# Altium footprint library MiscPCB.PcbLib: 7 footprints
Each footprint in its own frame and in the unit in brackets; x right, y up, seen from the top. Pads: shape width x height; smd on the part's side, far side on the other; paste and mask are expansions set on the pad; w line width, h text height; cw(c..) or ccw(c..) is an arc to the next point about the centre after c.
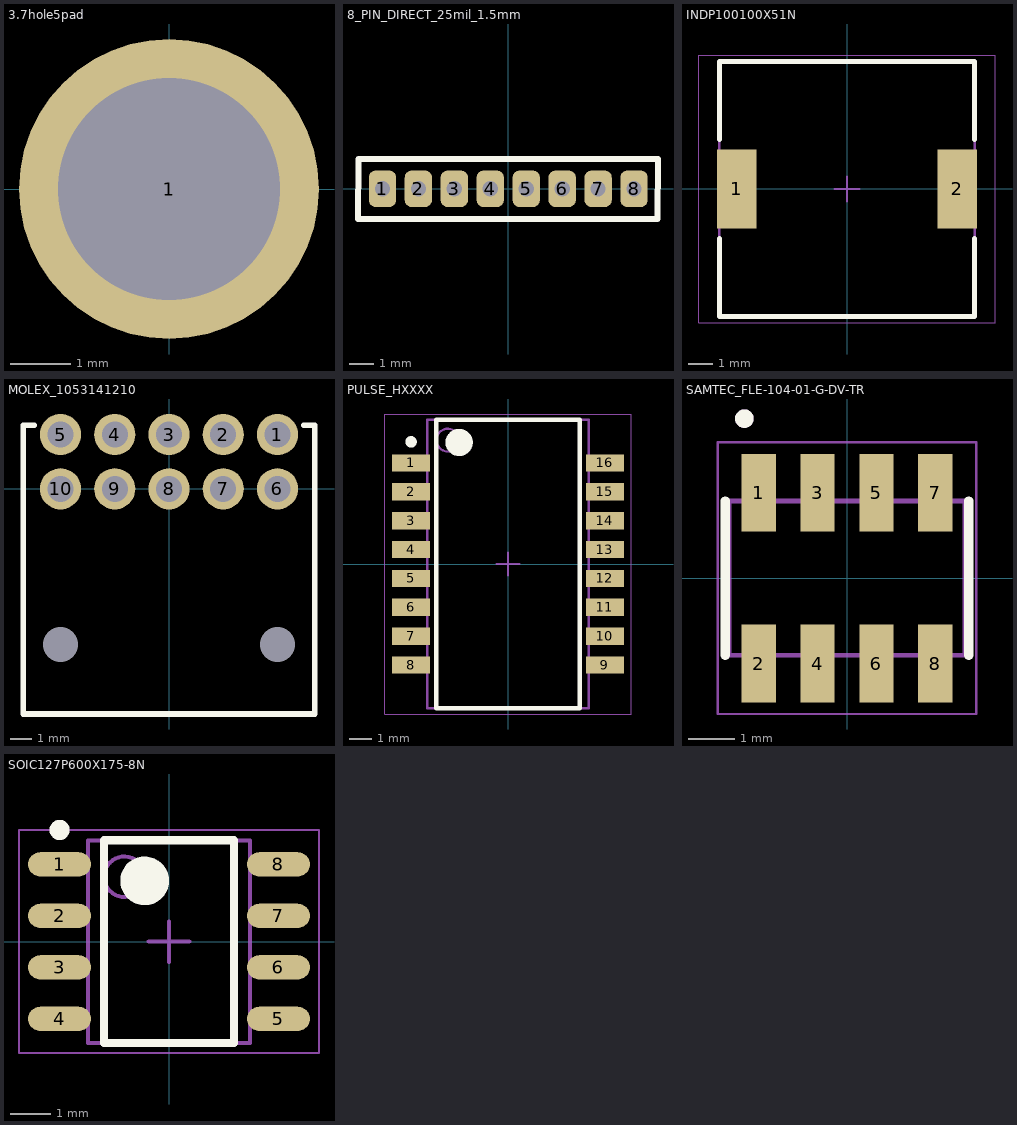
[diagram p0: the footprints below, top view; thin cyan lines are the x and y axes]

## 3.7hole5pad [mm] "3.7mm hole with 5mm pad"
pads (1):
  round 5 hole 3.7 paste-1.27 mask+0.051: 1(0,0)

## 8_PIN_DIRECT_25mil_1.5mm [mil]
pads (8):
  rrect50% 45x60 hole 25: 1(-206.69,0) 2(-147.64,0) 3(-88.58,0) 4(-29.53,0) 5(29.53,0) 6(88.58,0) 7(147.64,0) 8(206.69,0)
Top Overlay:
  lines w10: -246.9,-49.88 245.23,-49.88 246.06,49.21 -246.06,49.21 -246.9,-49.88

## INDP100100X51N [mm] "Precision Wire Wound Inductor, 2-Leads, Body 10.00x10.00mm, IPC Medium Density"
height 5.1
pads (2):
  rect 1.6x3.2 smd: 1(-4.45,0) 2(4.45,0)
Top Overlay:
  lines w0.2: -5.15,-2 -5.15,-5.15 5.15,-5.15 5.15,-2 ; -5.15,2 -5.15,5.15 5.15,5.15 5.15,2
Mechanical 13:
  lines w0.1: -5.15,-5.15 5.15,-5.15 5.15,5.15 -5.15,5.15 -5.15,-5.15
Mechanical 15:
  lines w0.05: -5.975,-5.4 5.975,-5.4 5.975,5.4 -5.975,5.4 -5.975,-5.4
  lines w0.1: -0.5,0 0.5,0 ; 0,-0.5 0,0.5
3D body "INDP100100X51N.step": height 5.2, standoff 0, extent -5.1,-5 5.1,5

## MOLEX_1053141210 [mm]
pads (12):
  round 0 hole 1.6 unplated: 0(-5,-7.18) 0(5,-7.18)
  round 1.9 hole 1.2: 1(5,2.5) 2(2.5,2.5) 3(0,2.5) 4(-2.5,2.5) 5(-5,2.5) 6(5,0) 7(2.5,0) 8(0,0) 9(-2.5,0) 10(-5,0)
Top Overlay:
  lines w0.254: -6.223,2.921 -6.72,2.921 -6.72,-10.38 6.72,-10.38 6.72,2.921 6.223,2.921
3D body "1053141210.stp": height 9.15, standoff -3.19, extent -6.72,-11.774 6.72,2.884

## PULSE_HXXXX [mm] "SOP, 16-Leads, Body 12.70x7.11mm, Pitch 1.27mm, IPC Medium Density"
height 5.97
pads (16):
  rect 1.67x0.76 smd: 1(-4.265,4.445) 2(-4.265,3.175) 3(-4.265,1.905) 4(-4.265,0.635) 5(-4.265,-0.635) 6(-4.265,-1.905) 7(-4.265,-3.175) 8(-4.265,-4.445) 9(4.265,-4.445) 10(4.265,-3.175) 11(4.265,-1.905) 12(4.265,-0.635) 13(4.265,0.635) 14(4.265,1.905) 15(4.265,3.175) 16(4.265,4.445)
Top Overlay:
  circle w0.25: c-4.265,5.375 r0.125
  circle w0.6: c-2.15,5.35 r0.3
  lines w0.2: -3.15,-6.35 -3.15,6.35 3.15,6.35 3.15,-6.35 -3.15,-6.35
Mechanical 13:
  circle w0.1: c-2.65,5.45 r0.5
  lines w0.1: -3.55,-6.35 -3.55,6.35 3.55,6.35 3.55,-6.35 -3.55,-6.35
Mechanical 15:
  lines w0.05: -5.425,-6.6 -5.425,6.6 5.425,6.6 5.425,-6.6 -5.425,-6.6
  lines w0.1: -0.5,0 0.5,0 ; 0,-0.5 0,0.5
3D body "PULSE_HXXXX.step": height 5.97, standoff 0, extent -4.765,-6.35 4.765,6.35

## SAMTEC_FLE-104-01-G-DV-TR [mm]
pads (8):
  rect 0.74x1.675 smd: 1(-1.905,1.843) 2(-1.905,-1.843) 3(-0.635,1.843) 4(-0.635,-1.843) 5(0.635,1.843) 6(0.635,-1.843) 7(1.905,1.843) 8(1.905,-1.843)
Top Overlay:
  circle w0.2: c-2.215,3.44 r0.1
  lines w0.2: -2.625,-1.665 -2.625,1.665 ; 2.625,-1.665 2.625,1.665
Mechanical 13:
  circle w0.2: c-2.215,3.44 r0.1
  lines w0.1: -2.54,-1.665 -2.54,1.665 2.54,1.665 2.54,-1.665 -2.54,-1.665
Mechanical 15:
  lines w0.05: -2.79,-2.93 -2.79,2.93 2.79,2.93 2.79,-2.93 -2.79,-2.93
3D body "FLE-104-01-G-DV.stp": height 4.57, standoff 0.02, extent -2.597,-2.297 2.597,2.298

## SOIC127P600X175-8N [mm] "SOIC, 8-Leads, Body 4.91x3.90mm, Pitch 1.27mm, IPC Medium Density"
height 1.75
pads (8):
  oval 1.55x0.6 smd: 1(-2.7,1.905) 2(-2.7,0.635) 3(-2.7,-0.635) 4(-2.7,-1.905) 5(2.7,-1.905) 6(2.7,-0.635) 7(2.7,0.635) 8(2.7,1.905)
Top Overlay:
  circle w0.25: c-2.7,2.755 r0.125
  circle w0.6: c-0.6,1.5 r0.3
  lines w0.2: -1.6,-2.5 -1.6,2.5 1.6,2.5 1.6,-2.5 -1.6,-2.5
Mechanical 13:
  circle w0.1: c-1.1,1.6 r0.5
  lines w0.1: -2,-2.5 -2,2.5 2,2.5 2,-2.5 -2,-2.5
Mechanical 15:
  lines w0.05: -3.7,-2.75 -3.7,2.75 3.7,2.75 3.7,-2.75 -3.7,-2.75
  lines w0.1: -0.5,0 0.5,0 ; 0,-0.5 0,0.5
3D body "SOIC127P600X175-8N.step": height 1.75, standoff 0, extent -2.997,-2.5 2.997,2.5